# Altium footprint library transistor-npn.PCBLIB: 49 footprints (part 3 of 4)
Each footprint in its own frame and in the unit in brackets; x right, y up, seen from the top. Pads: shape width x height; smd on the part's side, far side on the other; paste and mask are expansions set on the pad; w line width, h text height; cw(c..) or ccw(c..) is an arc to the next point about the centre after c.
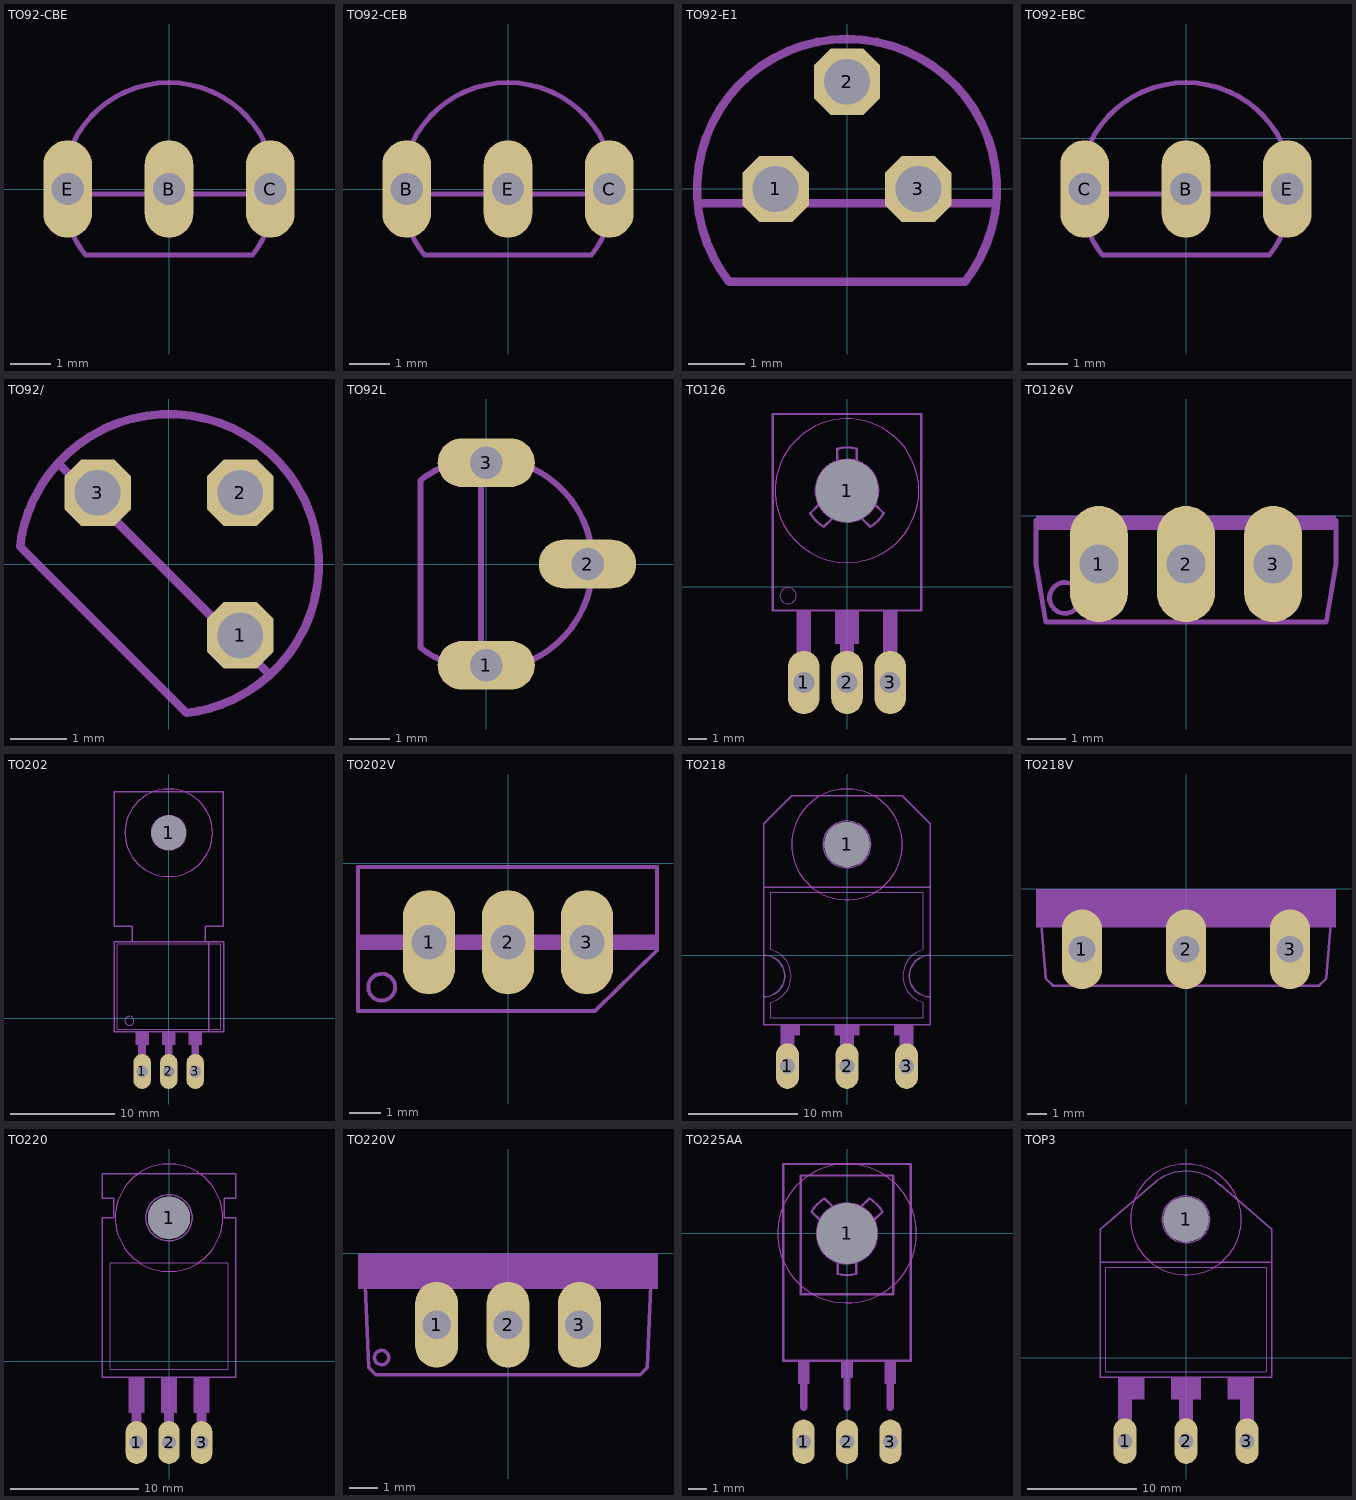
[diagram p2: the footprints below, top view; thin cyan lines are the x and y axes]

## TO92-CBE [mil]
pads (3):
  oval 48x96 hole 32: B(0,0) C(100,0) E(-100,0)
Mechanical 2:
  lines w5: -95.02,-44.72 ccw(c-0.02,0.01) -82.48,-65 82.48,-65 ccw(c0.01,0) 95.46,-43.77 ; -95,44.72 cw(c0,0) 95,44.72 ; -55.28,-5 -44.72,-5 ; 44.72,-5 55.28,-5
Mechanical 18:
  lines w5: -95,-44.72 cw(c0,0) -104.88,-5 ; -95,44.72 ccw(c0,0) -104.88,-5 ; -55.28,-5 -104.88,-5 ; -44.72,-5 44.72,-5 ; 55.28,-5 104.88,-5 ; 95,-44.72 ccw(c0,0) 104.88,-5 ; 95,44.72 cw(c0,0) 104.88,-5

## TO92-CEB [mil]
pads (3):
  oval 48x96 hole 32: B(-100,0) C(100,0) E(0,0)
Mechanical 2:
  lines w5: -95.02,-44.72 ccw(c-0.02,0.01) -82.48,-65 82.48,-65 ccw(c0.01,0) 95.46,-43.77 ; -95,44.72 cw(c0,0) 95,44.72 ; -55.28,-5 -44.72,-5 ; 44.72,-5 55.28,-5
Mechanical 18:
  lines w5: -95,-44.72 cw(c0,0) -104.88,-5 ; -95,44.72 ccw(c0,0) -104.88,-5 ; -55.28,-5 -104.88,-5 ; -44.72,-5 44.72,-5 ; 55.28,-5 104.88,-5 ; 95,-44.72 ccw(c0,0) 104.88,-5 ; 95,44.72 cw(c0,0) 104.88,-5

## TO92-E1 [mil]
pads (3):
  oct 46.48x46.48 hole 32: 1(-50,0) 2(0,75) 3(50,0)
Mechanical 2:
  lines w6: -104.53,-10 -88.74,-10 ; -30.98,100.33 ccw(c-0.02,0) -82.48,-65 82.48,-65 ccw(c0.02,0) 30.98,100.33 ; -11.26,-10 11.26,-10 ; 88.74,-10 104.53,-10
Mechanical 18:
  lines w6: -88.74,-10 -11.26,-10 ; -30.96,100.33 cw(c0,0) 30.96,100.33 ; 11.26,-10 88.74,-10

## TO92-EBC [mil]
pads (3):
  oval 48x96 hole 32: B(0,-50) C(-100,-50) E(100,-50)
Mechanical 2:
  lines w5: -95.02,-94.72 ccw(c-0.02,-49.99) -82.48,-115 82.48,-115 ccw(c0.01,-50) 95.46,-93.77 ; -95,-5.28 cw(c0,-50) 95,-5.28 ; -55.28,-55 -44.72,-55 ; 44.72,-55 55.28,-55
Mechanical 18:
  lines w5: -95,-94.72 cw(c0,-50) -104.88,-55 ; -95,-5.28 ccw(c0,-50) -104.88,-55 ; -55.28,-55 -104.88,-55 ; -44.72,-55 44.72,-55 ; 55.28,-55 104.88,-55 ; 95,-94.72 ccw(c0,-50) 104.88,-55 ; 95,-5.28 cw(c0,-50) 104.88,-55

## TO92/ [mil]
pads (3):
  oct 46.48x46.48 hole 32: 1(50,-50) 2(50,50) 3(-50,50)
Mechanical 2:
  lines w6: -94.77,45.27 ccw(c-0.01,0.03) -104.29,12.36 12.36,-104.29 ccw(c0.03,-0.01) 45.27,-94.77 ; -45.25,94.75 cw(c0,0.01) 45.25,94.75 ; -21.93,14.84 14.84,-21.93 ; 94.75,-45.25 ccw(c0.01,0) 94.75,45.25
Mechanical 18:
  lines w6: -94.75,45.25 cw(c0.01,-0.01) -45.25,94.75 ; -77.72,70.63 -21.93,14.84 ; 14.84,-21.93 70.63,-77.72 ; 45.25,-94.75 ccw(c-0.01,0.01) 94.75,-45.25 ; 45.25,94.75 cw(c-0.01,-0.01) 94.75,45.25

## TO92L [mil]
pads (3):
  oval 96x48 hole 32: 1(0,-100) 2(100,0) 3(0,100)
Mechanical 2:
  lines w6: -44.72,95.02 ccw(c0.01,0.02) -65,82.48 -65,-82.48 ccw(c0,-0.01) -43.77,-95.46 ; -5,-55.28 -5,55.28 ; 44.72,-95 ccw(c0,0) 95,-44.72 ; 44.72,95 cw(c0,0) 95,44.72
Mechanical 18:
  lines w6: -44.72,-95 ccw(c0,0) -5,-104.88 ; -44.72,95 cw(c0,0) -5,104.88 ; -5,-55.28 -5,-104.88 ; -5,55.28 -5,104.88 ; 44.72,-95 cw(c0,0) -5,-104.88 ; 44.72,95 ccw(c0,0) -5,104.88 ; 95,-44.72 ccw(c0,0) 95,44.72

## TO126 [mil]
pads (4):
  oval 66x132 hole 44: 1(-90,-200) 2(0,-200) 3(90,-200)
  round 130 hole 130: 1(0,200)
Mechanical 2:
  circle w0: c-123,-19 r17
  circle w5: c0,200 r65
  rectangle: -25,-120 25,-50
  rectangle: -105,-135 -75,-50
  rectangle: -15,-135 15,-50
  rectangle: 75,-135 105,-50
  lines w5: -58.22,171.09 -76.74,152.98 ccw(c0,199.99) -48.79,124.37 -30.26,142.47 ; -20,261.85 -20,287.75 cw(c0,200) 20,287.75 20,261.85 ; 30.26,142.47 48.79,124.37 ccw(c0,199.99) 76.74,152.98 58.22,171.09 ; -155,-50 -155,360 155,360 155,-50 -155,-50
Mechanical 11 keep-out:
  circle w0: c0,200 r150
Mechanical 12:
  circle w0: c0,200 r150
Mechanical 18:
  rectangle: -105,-205 -75,-135
  rectangle: -15,-205 15,-135
  rectangle: 75,-205 105,-135

## TO126V [mil]
pads (3):
  oval 60x120 hole 40: 1(-90,-50) 2(0,-50) 3(90,-50)
Mechanical 2:
  rectangle: -155,-15 -125,0
  rectangle: -55,-15 -35,0
  rectangle: 35,-15 55,0
  rectangle: 125,-15 155,0
  lines w5: -155,-5 -155,-50 -145,-110 -110,-110 ; -70,-110 -20,-110 ; 20,-110 70,-110 ; 110,-110 145,-110 155,-50 155,-5
Mechanical 18:
  circle w5: c-125,-85 r16
  rectangle: -125,-15 -55,0
  rectangle: -35,-15 35,0
  rectangle: 55,-15 125,0
  lines w5: -110,-110 -70,-110 ; -20,-110 20,-110 ; 70,-110 110,-110

## TO202 [mil]
pads (4):
  oval 66x132 hole 44: 1(-100,-200) 2(0,-200) 3(100,-200)
  round 130 hole 130: 1(0,700)
Mechanical 2:
  circle w0: c-148,-9 r17
  circle w5: c0,700 r65
  rectangle: -25,-100 25,-50
  rectangle: 75,-100 125,-50
  rectangle: -125,-100 -75,-50
  rectangle: 85,-135 115,-100
  rectangle: -15,-135 15,-100
  rectangle: -115,-135 -85,-100
  lines w2: -195,-40 195,-40 195,280 -195,280 -195,-40
  lines w5: -138,289 -138,347 -205,347 -205,855 205,855 205,347 138,347 138,289 ; -138,289 -205,289 -205,-50 151,-50 ; -138,289 138,289 ; 138,289 151,289 ; 151,-50 151,289 ; 151,-50 207,-50 207,289 151,289
Mechanical 11 keep-out:
  circle w0: c0,700 r165
Mechanical 12:
  circle w0: c0,700 r165
Mechanical 18:
  rectangle: 85,-200 115,-135
  rectangle: -15,-200 15,-135
  rectangle: -115,-200 -85,-135

## TO202V [mil]
pads (3):
  oval 66x132 hole 44: 1(-100,-100) 2(0,-100) 3(100,-100)
Mechanical 2:
  circle w5: c-160,-157 r17
  rectangle: 135,-110 190,-90
  rectangle: 35,-110 65,-90
  rectangle: -65,-110 -35,-90
  rectangle: -190,-110 -135,-90
  lines w5: -190,-187 110,-187 189,-110 189,-5 -190,-5 -190,-187
Mechanical 18:
  rectangle: -135,-110 -65,-90
  rectangle: -35,-110 35,-90
  rectangle: 65,-110 135,-90

## TO218 [mil]
pads (4):
  oval 82.5x165 hole 55: 1(-215,-400) 2(0,-400) 3(215,-400)
  round 162 hole 162: 1(0,400)
Mechanical 2:
  circle w5: c0,400 r85
  rectangle: -240,-290 -170,-250
  rectangle: 170,-290 240,-250
  rectangle: -45,-290 45,-250
  rectangle: -240,-320 -190,-250
  rectangle: -25,-320 25,-250
  rectangle: 190,-320 240,-250
  lines w2: 273.71,19.65 ccw(c300,-75) 275,-169.99 275,-225 -275,-225 -275,-170 ccw(c-300,-75) -275,20 -275,225 275,225 275,20
  lines w5: -300,-150 -300,-250 300,-250 300,-150 ; -300,-150 -300,0 ; -300,-150 ccw(c-300,-75) -300,0 ; -300,0 -300,245 ; -300,245 300,245 ; -300,245 -300,475 -200,575 200,575 300,475 300,245 ; 300,-150 300,0 ; 300,-150 cw(c300,-75) 300,0 ; 300,0 300,245
Mechanical 11 keep-out:
  circle w0: c0,400 r200
Mechanical 12:
  circle w0: c0,400 r200
Mechanical 18:
  rectangle: -240,-405 -190,-320
  rectangle: -25,-405 25,-320
  rectangle: 190,-405 240,-320

## TO218V [mil]
pads (3):
  oval 82.5x165 hole 55: 1(-215,-125) 2(0,-125) 3(215,-125)
Mechanical 2:
  rectangle: -310,-45 310,0
  rectangle: -140,-80 -75,-45
  rectangle: 75,-80 140,-45
  rectangle: -310,-80 -285,-45
  rectangle: 285,-80 310,-45
  lines w5: -300,-60 -290,-185 -275,-200 275,-200 290,-185 300,-60
Mechanical 18:
  rectangle: 140,-80 285,-45
  rectangle: -285,-80 -140,-45
  rectangle: -75,-80 75,-45

## TO220 [mil]
pads (4):
  oval 66x132 hole 44: 1(-100,-250) 2(0,-250) 3(100,-250)
  round 130 hole 130: 1(0,440)
Mechanical 2:
  circle w5: c0,440 r71
  rectangle: 85,-185 115,-160
  rectangle: -15,-185 15,-160
  rectangle: -115,-185 -85,-160
  rectangle: -125,-160 -75,-50
  rectangle: -25,-160 25,-50
  rectangle: 75,-160 125,-50
  lines w2: -180,-25 180,-25 180,300 -180,300 -180,-25
  lines w5: -205,-50 205,-50 205,440 170,440 170,500 205,500 205,575 -205,575 -205,500 -170,500 -170,440 -205,440 -205,-50
Mechanical 11 keep-out:
  circle w0: c0,440 r165
Mechanical 12:
  circle w0: c0,440 r165
Mechanical 18:
  rectangle: -115,-260 -85,-185
  rectangle: -15,-260 15,-185
  rectangle: 85,-260 115,-185

## TO220V [mil]
pads (3):
  oval 60x120 hole 40: 1(-100,-100) 2(0,-100) 3(100,-100)
Mechanical 2:
  circle w5: c-177,-146 r10
  rectangle: -210,-30 210,0
  rectangle: -210,-50 -135,-30
  rectangle: -65,-50 -35,-30
  rectangle: 35,-50 65,-30
  rectangle: 135,-50 210,-30
  lines w5: -200,-45 -195,-160 -185,-170 185,-170 195,-160 200,-45
Mechanical 18:
  rectangle: -135,-50 -65,-30
  rectangle: -35,-50 35,-30
  rectangle: 65,-50 135,-30

## TO225AA [mil]
pads (4):
  oval 48x96 hole 32: 1(-93.75,-450) 2(0,-450) 3(93.75,-450)
  round 130 hole 130: 1(0,0)
Mechanical 2:
  circle w5: c0,0 r65
  rectangle: -106.25,-325 -81.25,-275
  rectangle: 81.25,-325 106.25,-275
  rectangle: -12.5,-312.5 12.5,-275
  lines w5: -58.23,28.9 -76.73,47.01 cw(c0,-0.02) -48.78,75.61 ; -48.78,75.63 -30.28,57.52 ; -20,-61.85 -20,-87.76 ccw(c0,-0.01) 20,-87.76 20,-61.85 ; 30.28,57.52 48.78,75.63 cw(c-0.02,0) 76.73,47.02 58.23,28.9 ; -137.5,-275 -137.5,150 137.5,150 137.5,-275 -137.5,-275
  lines w16: -93.74,-375 -93.74,-318.74 ; 0,-375 0,-306.26 ; 93.74,-375 93.75,-318.75
Mechanical 11 keep-out:
  circle w0: c0,0 r150
Mechanical 12:
  circle w0: c0,0 r150
Mechanical 18:
  lines w5: -100,-131.26 -100,125 100,125 100,-131.26 -100,-131.26

## TOP3 [mil]
pads (4):
  oval 82.5x165 hole 55: 1(-220,-300) 2(0,-300) 3(220,-300)
  round 162 hole 162: 1(0,500)
Mechanical 2:
  circle w5: c0,500 r85
  rectangle: -245,-150 -150,-70
  rectangle: -55,-150 55,-70
  rectangle: 150,-150 245,-70
  rectangle: -245,-225 -195,-150
  rectangle: -25,-225 25,-150
  rectangle: 195,-225 245,-150
  lines w2: -290,-50 290,-50 290,325 -290,325 -290,-50
  lines w5: -123.74,623.74 cw(c0.01,500) 0,675 cw(c-0.01,500) 123.74,623.74 ; -123,624 -310,465 -310,345 ; 123,625 310,465 310,345 ; -310,345 -310,-70 310,-70 310,345 ; -310,345 310,345
Mechanical 11 keep-out:
  circle w0: c0,500 r200
Mechanical 12:
  circle w0: c0,500 r200
Mechanical 18:
  rectangle: -245,-300 -195,-225
  rectangle: -25,-300 25,-225
  rectangle: 195,-300 245,-225